# Altium schematic symbol library Schlib1.SchLib: 25 symbols (part 1 of 2)
Pins are listed as number, name and electrical type; pins without a type are passive.

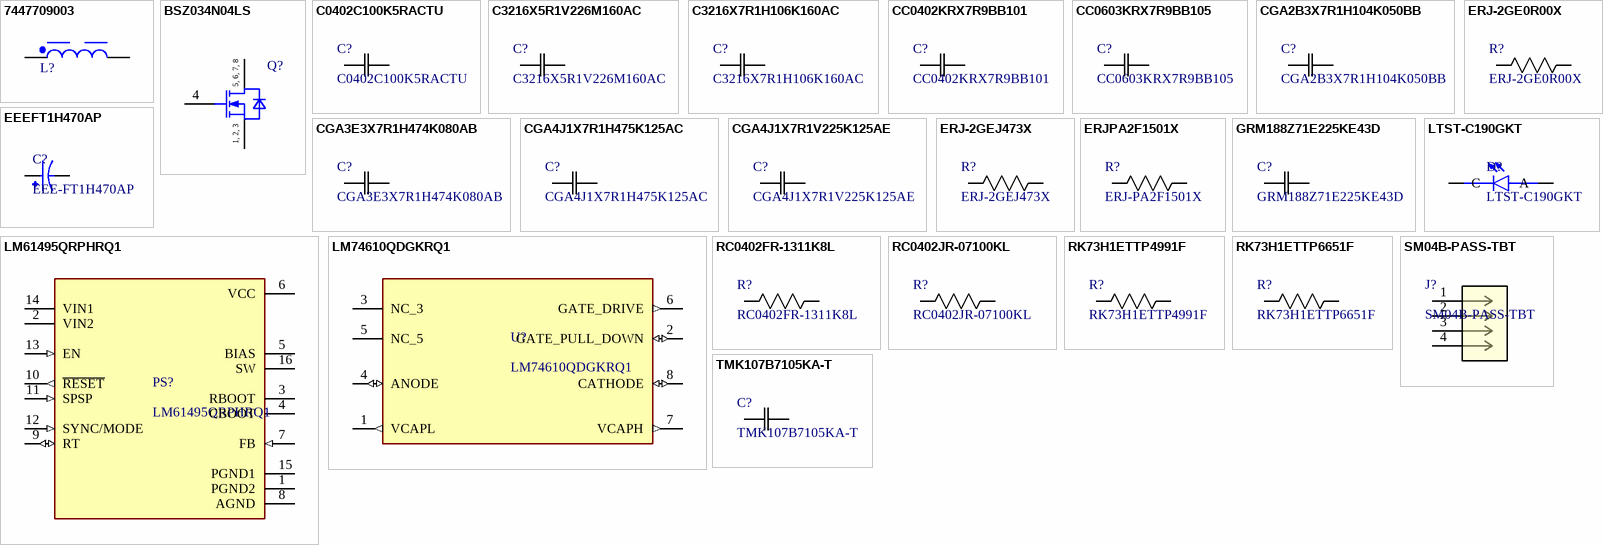
[diagram p0: symbols 7447709003 to TMK107B7105KA-T]

## 7447709003
designator L?, comment 3.5uH, 11A  (value not drawn)
WE-PD SMT Power Inductor, size 1210, 3.5uH, 11A, 9mOhm; Manufacturer Part Number: 7447709003; Manufacturer: Wurth Elektronik; Case/Size Code: 1210; DC Resistance: 6mOhm; Saturation Current: 16.5A; Self Resonant Frequency: 45MHz; Type: Standard; Category: Power Inductors; Match Code: WE-PD; ComponentLink1Description: Website Link; ComponentLink1URL: https://www.we-online.com/redexpert/article/7447709003?ad; ComponentLink2Description: Datasheet Link; ComponentLink2URL: https://www.we-online.com/redexpert/spec/7447709003?ad; Mount: Surface Mount; Operating Temperature Max: 125°C; Operating Temperature Min: -40°C; Packaging: Tape and Reel; Length: 12mm; Width: 12mm; Height: 10mm; DC Resistance Max: 9mOhm; Inductance: 3.5uH; Rated Current: 11A
footprint WE-PD_1210 (SMT Shielded Power Inductor, 2-leads, body 12x12mm)
pins: 1, 2

## BSZ034N04LS
designator Q?, comment BSZ034N04LSATMA1  (value not drawn)
N-Channel 40 V 19A (Ta), 40A (Tc) 2.1W (Ta), 52W (Tc) Surface Mount PG-TSDSON-8-FL; Manufacturer: Infineon Technologies; ManufacturerPartNumber: BSZ034N04LS; PackageReference: PG-TSDSON-8 FL
footprint INF-PG-TSDSON-8-FL (SON,0.65mm pitch;8 pin,3.3mm W X 3.3mm L X 1.10mm H body)
pins: 1 SOURCE, 2 SOURCE, 3 SOURCE, 4 GATE, 5 DRAIN, 6 DRAIN, 7 DRAIN, 8 DRAIN
text: 5, 6, 7, 8; 1, 2, 3

## C0402C100K5RACTU
designator C?
Multilayer Ceramic Capacitors MLCC - SMD/SMT 50V 10pF X7R 0402 10%; Manufacturer: KEMET; Supplier: DigiKey; Supplier Part Number: 399-C0402C100K5RACTUCT-ND; Manufacturer Part Number: C0402C100K5RACTU; RoHS: Compliant; Category: Ceramic Capacitors; Stock: 72570; Pricing: 1=0.1, 10=0.042, 50=0.0282, 100=0.0243, 500=0.01752, 1000=0.01547, 2500=0.01322, 5000=0.01199 (USD); Value: 10pF; Case/Package: 0402; China RoHS: Compliant; Dielectric: X7R; Dielectric Material: Ceramic; Height: 500µm; Length: 1mm; Lifecycle Status: Production; Material: Ceramic; Max Operating Temperature: 125°C; Min Operating Temperature: -55°C; Mounting Technology: Surface Mount; Pins: 2; Number of Terminals: 2; REACH SVHC: Yes; Schedule B: 8532240020; Tolerance: 10%; Voltage Rating: 50V; Voltage Rating (DC): 50V; Width: 500µm; ComponentLink1URL: https://datasheet.octopart.com:443/C0402C100K5RACTU-KEMET-datasheet-178445679.pdf?src-supplier=IHS; ComponentLink1Description: https://datasheet.octopart.com:443/C0402C100K5RACTU-KEMET-datasheet-178445679.pdf?src-supplier=IHS; ComponentLink2URL: https://datasheet.octopart.com:443/C0402C100K5RACTU-KEMET-datasheet-137357759.pdf?src-supplier=Farnell; ComponentLink2Description: https://datasheet.octopart.com:443/C0402C100K5RACTU-KEMET-datasheet-137357759.pdf?src-supplier=Farnell; ComponentLink3URL: https://datasheet.octopart.com:443/C0402C100K5RACTU-KEMET-datasheet-101607523.pdf?src-supplier=Farnell; ComponentLink3Description: https://datasheet.octopart.com:443/C0402C100K5RACTU-KEMET-datasheet-101607523.pdf?src-supplier=Farnell; ComponentLink4URL: https://datasheet.octopart.com:443/C0402C100K5RACTU-KEMET-datasheet-157246124.pdf?src-supplier=Electro+Sonic; ComponentLink4Description: https://datasheet.octopart.com:443/C0402C100K5RACTU-KEMET-datasheet-157246124.pdf?src-supplier=Electro+Sonic; ComponentLink5URL: https://datasheet.octopart.com:443/C0402C100K5RACTU-KEMET-datasheet-178087912.pdf?src-supplier=Newark; ComponentLink5Description: https://datasheet.octopart.com:443/C0402C100K5RACTU-KEMET-datasheet-178087912.pdf?src-supplier=Newark; ComponentLink6URL: https://datasheet.octopart.com:443/C0402C100K5RACTU-KEMET-datasheet-188904202.pdf?src-supplier=TME; ComponentLink6Description: https://datasheet.octopart.com:443/C0402C100K5RACTU-KEMET-datasheet-188904202.pdf?src-supplier=TME; ComponentLink7URL: https://datasheet.octopart.com:443/C0402C100K5RACTU-KEMET-datasheet-158241862.pdf?src-supplier=TME; ComponentLink7Description: https://datasheet.octopart.com:443/C0402C100K5RACTU-KEMET-datasheet-158241862.pdf?src-supplier=TME; ComponentLink8URL: https://datasheet.octopart.com:443/C0402C100K5RACTU-KEMET-datasheet-147336158.pdf?src-supplier=Ciiva; ComponentLink8Description: https://datasheet.octopart.com:443/C0402C100K5RACTU-KEMET-datasheet-147336158.pdf?src-supplier=Ciiva; ComponentLink9URL: https://datasheet.octopart.com/C0402C100K5RACTU-KEMET-datasheet-84169754.pdf; ComponentLink9Description: https://datasheet.octopart.com/C0402C100K5RACTU-KEMET-datasheet-84169754.pdf
footprint CAP_0402 (Capacitor)
pins: 1, 2

## C3216X5R1V226M160AC
designator C?
Multilayer Ceramic Capacitors MLCC – SMD/SMT; TDK; C3216X5R1V226M160AC; 22 µF; 1206; 35 V; 35 V; Manufacturer Lifecycle Status: PRODUCTION; Value: 22µF; Dielectric: X5R; Tolerance: 20%; Voltage: 35V; Supplier: DigiKey; Supplier Part Number: 445-8045-1-ND; Manufacturer: TDK; Manufacturer Part Number: C3216X5R1V226M160AC; RoHS: Compliant; Category: Ceramic Capacitors; Stock: 260699; Pricing: 1=0.81, 10=0.51, 50=0.3898, 100=0.3371, 500=0.29562, 1000=0.27671 (USD); Case/Package: 1206; Case Code (Imperial): 1206; Case Code (Metric): 3216; China RoHS: Compliant; Composition: Ceramic; Depth: 1.6mm; Dielectric Material: Ceramic; Height: 1.6mm; Lead Free: Lead Free; Length: 3.2mm; Lifecycle Status: Production; Material: Ceramic; Max Length: 3.4mm; Max Operating Temperature: 85°C; Max Width: 1.8mm; Min Length: 3mm; Min Operating Temperature: -55°C; Min Width: 1.4mm; Mounting Technology: Surface Mount; Number of Terminals: 2; Radiation Hardening: No; REACH SVHC: Yes; Schedule B: 8532240020, 8532240020|8532240020|8532240020|8532240020|8532240020|8532240020|8532240020|8532240020|8532240020|8532240020|8532240020|8532240020|8532240020|8532240020|8532240020|8532240020|8532240020|8532240020|8532240020|8532240020|8532240020|8532240020|8532240020|85; Termination: SMD/SMT; Thickness: 1.6mm; Voltage Rating: 35V; Voltage Rating (DC): 35V; Weight: 16.187578mg; Width: 1.6mm; ComponentLink1URL: https://datasheet.octopart.com:443/C3216X5R1V226M160AC-TDK-datasheet-175423548.pdf?src-supplier=TME; ComponentLink1Description: https://datasheet.octopart.com:443/C3216X5R1V226M160AC-TDK-datasheet-175423548.pdf?src-supplier=TME; ComponentLink2URL: https://datasheet.octopart.com:443/C3216X5R1V226M160AC-TDK-datasheet-182135025.pdf?src-supplier=TME; ComponentLink2Description: https://datasheet.octopart.com:443/C3216X5R1V226M160AC-TDK-datasheet-182135025.pdf?src-supplier=TME; ComponentLink3URL: https://datasheet.octopart.com:443/C3216X5R1V226M160AC-TDK-datasheet-159617022.pdf?src-supplier=TME; ComponentLink3Description: https://datasheet.octopart.com:443/C3216X5R1V226M160AC-TDK-datasheet-159617022.pdf?src-supplier=TME; ComponentLink4URL: https://datasheet.octopart.com/C3216X5R1V226M160AC-TDK-datasheet-41194876.pdf; ComponentLink4Description: https://datasheet.octopart.com/C3216X5R1V226M160AC-TDK-datasheet-41194876.pdf; ComponentLink5URL: https://datasheet.octopart.com:443/C3216X5R1V226M160AC-TDK-datasheet-151546523.pdf?src-supplier=ODG+(Origin+Data+Global); ComponentLink5Description: https://datasheet.octopart.com:443/C3216X5R1V226M160AC-TDK-datasheet-151546523.pdf?src-supplier=ODG+(Origin+Data+Global); ComponentLink6URL: https://datasheet.octopart.com:443/C3216X5R1V226M160AC-TDK-datasheet-154546117.pdf?src-supplier=Newark; ComponentLink6Description: https://datasheet.octopart.com:443/C3216X5R1V226M160AC-TDK-datasheet-154546117.pdf?src-supplier=Newark; ComponentLink7URL: https://datasheet.octopart.com:443/C3216X5R1V226M160AC-TDK-datasheet-82475248.pdf?src-supplier=Newark; ComponentLink7Description: https://datasheet.octopart.com:443/C3216X5R1V226M160AC-TDK-datasheet-82475248.pdf?src-supplier=Newark; ComponentLink8URL: https://datasheet.octopart.com:443/C3216X5R1V226M160AC-TDK-datasheet-13444418.pdf?src-supplier=Newark; ComponentLink8Description: https://datasheet.octopart.com:443/C3216X5R1V226M160AC-TDK-datasheet-13444418.pdf?src-supplier=Newark; ComponentLink9URL: https://datasheet.octopart.com:443/C3216X5R1V226M160AC-TDK-datasheet-23766614.pdf?src-supplier=Newark; ComponentLink9Description: https://datasheet.octopart.com:443/C3216X5R1V226M160AC-TDK-datasheet-23766614.pdf?src-supplier=Newark; ComponentLink10URL: https://datasheet.octopart.com:443/C3216X5R1V226M160AC-TDK-datasheet-41169347.pdf?src-supplier=element14+APAC; ComponentLink10Description: https://datasheet.octopart.com:443/C3216X5R1V226M160AC-TDK-datasheet-41169347.pdf?src-supplier=element14+APAC
footprint CAP_1206
pins: 1, 2

## C3216X7R1H106K160AC
designator C?
10 µF ±10% 50V Ceramic Capacitor X7R 1206 (3216 Metric); Manufacturer_Name: TDK; Copyright: Copyright (C) 2025 Ultra Librarian. All rights reserved.; Manufacturer_Part_Number: C3216X7R1H106K160AC
footprint CAP_1206
pins: 1, 2

## CC0402KRX7R9BB101
designator C?
50V 100pF X7R ±10% 0402 Multilayer Ceramic Capacitors MLCC - SMD/SMT ROHS; Manufacturer: Yageo Group; Insulation Resistance: 100GΩ; Temperature Coefficient: 30ppm/°C; Supplier: DigiKey; Supplier Part Number: 311-1419-1-ND; Manufacturer Part Number: CC0402KRX7R9BB101; RoHS: Compliant; Category: Ceramic Capacitors; Stock: 385904; Pricing: 1=0.1, 10=0.024, 50=0.0156, 100=0.0133, 500=0.00926, 1000=0.00791, 2500=0.00676, 5000=0.00609 (USD); Value: 100pF; Case/Package: 0402; Case Code (Imperial): 0402; Case Code (Metric): 1005; China RoHS: Compliant; Composition: Ceramic; Depth: 500µm; Dielectric: X7R; Dielectric Material: Ceramic; Halogen Free: Halogen Free; Height: 500µm; Lead Free: Lead Free; Length: 1mm; Lifecycle Status: Production; Material: Ceramic; Max Operating Temperature: 125°C; Min Operating Temperature: -55°C; Mounting Technology: Surface Mount; Pins: 2; Number of Terminals: 2; Radiation Hardening: No; REACH SVHC: Yes; Schedule B: 8532240020, 8532240020|8532240020, 8532240020|8532240020|8532240020, 8532240020|8532240020|8532240020|8532240020; Termination: SMD/SMT; Thickness: 558.8µm; Tolerance: 10%; Voltage Rating: 50V; Voltage Rating (AC): 50V; Voltage Rating (DC): 50V; Weight: 652.039032µg; Width: 500µm; ComponentLink1URL: https://datasheet.octopart.com:443/CC0402KRX7R9BB101-Yageo-datasheet-177165144.pdf?src-supplier=IHS; ComponentLink1Description: https://datasheet.octopart.com:443/CC0402KRX7R9BB101-Yageo-datasheet-177165144.pdf?src-supplier=IHS; ComponentLink2URL: https://datasheet.octopart.com/CC0402KRX7R9BB101-Yageo-datasheet-10883670.pdf; ComponentLink2Description: https://datasheet.octopart.com/CC0402KRX7R9BB101-Yageo-datasheet-10883670.pdf; ComponentLink3URL: https://datasheet.octopart.com/CC0402KRX7R9BB101-Yageo-datasheet-12526321.pdf; ComponentLink3Description: https://datasheet.octopart.com/CC0402KRX7R9BB101-Yageo-datasheet-12526321.pdf; ComponentLink4URL: https://datasheet.octopart.com:443/CC0402KRX7R9BB101-Yageo-datasheet-78855684.pdf?src-supplier=Upverter; ComponentLink4Description: https://datasheet.octopart.com:443/CC0402KRX7R9BB101-Yageo-datasheet-78855684.pdf?src-supplier=Upverter; ComponentLink5URL: https://datasheet.octopart.com:443/CC0402KRX7R9BB101-Yageo-datasheet-147453679.pdf?src-supplier=Newark; ComponentLink5Description: https://datasheet.octopart.com:443/CC0402KRX7R9BB101-Yageo-datasheet-147453679.pdf?src-supplier=Newark; ComponentLink6URL: https://datasheet.octopart.com:443/CC0402KRX7R9BB101-Yageo-datasheet-5301394.pdf?src-supplier=Newark; ComponentLink6Description: https://datasheet.octopart.com:443/CC0402KRX7R9BB101-Yageo-datasheet-5301394.pdf?src-supplier=Newark; ComponentLink7URL: https://datasheet.octopart.com:443/CC0402KRX7R9BB101-Yageo-datasheet-62336348.pdf?src-supplier=element14+APAC; ComponentLink7Description: https://datasheet.octopart.com:443/CC0402KRX7R9BB101-Yageo-datasheet-62336348.pdf?src-supplier=element14+APAC; ComponentLink8URL: https://datasheet.octopart.com:443/CC0402KRX7R9BB101-Yageo-datasheet-166511530.pdf?src-supplier=Future+Electronics; ComponentLink8Description: https://datasheet.octopart.com:443/CC0402KRX7R9BB101-Yageo-datasheet-166511530.pdf?src-supplier=Future+Electronics; ComponentLink9URL: https://datasheet.octopart.com:443/CC0402KRX7R9BB101-Yageo-datasheet-137700082.pdf?src-supplier=Future+Electronics; ComponentLink9Description: https://datasheet.octopart.com:443/CC0402KRX7R9BB101-Yageo-datasheet-137700082.pdf?src-supplier=Future+Electronics; ComponentLink10URL: https://datasheet.octopart.com:443/CC0402KRX7R9BB101-Yageo-datasheet-137700084.pdf?src-supplier=Future+Electronics; ComponentLink10Description: https://datasheet.octopart.com:443/CC0402KRX7R9BB101-Yageo-datasheet-137700084.pdf?src-supplier=Future+Electronics; ComponentLink11URL: https://datasheet.octopart.com:443/CC0402KRX7R9BB101-Yageo-datasheet-27626582.pdf?src-supplier=Future+Electronics; ComponentLink11Description: https://datasheet.octopart.com:443/CC0402KRX7R9BB101-Yageo-datasheet-27626582.pdf?src-supplier=Future+Electronics; ComponentLink12URL: https://datasheet.octopart.com:443/CC0402KRX7R9BB101-Yageo-datasheet-24578986.pdf?src-supplier=Future+Electronics; ComponentLink12Description: https://datasheet.octopart.com:443/CC0402KRX7R9BB101-Yageo-datasheet-24578986.pdf?src-supplier=Future+Electronics; ComponentLink13URL: https://datasheet.octopart.com:443/CC0402KRX7R9BB101-Yageo-datasheet-15895757.pdf?src-supplier=Future+Electronics; ComponentLink13Description: https://datasheet.octopart.com:443/CC0402KRX7R9BB101-Yageo-datasheet-15895757.pdf?src-supplier=Future+Electronics; ComponentLink14URL: https://datasheet.octopart.com:443/CC0402KRX7R9BB101-Yageo-datasheet-8324192.pdf?src-supplier=Future+Electronics; ComponentLink14Description: https://datasheet.octopart.com:443/CC0402KRX7R9BB101-Yageo-datasheet-8324192.pdf?src-supplier=Future+Electronics; ComponentLink15URL: https://datasheet.octopart.com:443/CC0402KRX7R9BB101-Yageo-datasheet-151948686.pdf?src-supplier=Farnell; ComponentLink15Description: https://datasheet.octopart.com:443/CC0402KRX7R9BB101-Yageo-datasheet-151948686.pdf?src-supplier=Farnell; ComponentLink16URL: http://sigma.octopart.com:80/rohs_statement/Surface-Mount-Ceramic-Multilayer-Capacitors%3B-General-Purpose-%26-High-Capacitance-Class-2%2C-X7R-Yageo-family-124.pdf?src-supplier=Compliance+Statements; ComponentLink16Description: http://sigma.octopart.com:80/rohs_statement/Surface-Mount-Ceramic-Multilayer-Capacitors%3B-General-Purpose-%26-High-Capacitance-Class-2%2C-X7R-Yageo-family-124.pdf?src-supplier=Compliance+Statements; ComponentLink17URL: http://sigma.octopart.com:80/reach_statement/Surface-Mount-Ceramic-Multilayer-Capacitors%3B-General-Purpose-%26-High-Capacitance-Class-2%2C-X7R-Yageo-family-125.pdf?src-supplier=Compliance+Statements; ComponentLink17Description: http://sigma.octopart.com:80/reach_statement/Surface-Mount-Ceramic-Multilayer-Capacitors%3B-General-Purpose-%26-High-Capacitance-Class-2%2C-X7R-Yageo-family-125.pdf?src-supplier=Compliance+Statements; ComponentLink18URL: http://sigma.octopart.com:80/rohs_statement/Yageo-company-2.pdf?src-supplier=Compliance+Statements; ComponentLink18Description: http://sigma.octopart.com:80/rohs_statement/Yageo-company-2.pdf?src-supplier=Compliance+Statements; ComponentLink19URL: http://sigma.octopart.com:80/conflict_mineral_statement/Yageo-company-3.pdf?src-supplier=Compliance+Statements; ComponentLink19Description: http://sigma.octopart.com:80/conflict_mineral_statement/Yageo-company-3.pdf?src-supplier=Compliance+Statements
footprint CAP_0402 (Capacitor)
pins: 1, 2

## CC0603KRX7R9BB105
designator C?
50V 1uF X7R ±10% 0603 Multilayer Ceramic Capacitors MLCC - SMD/SMT ROHS; Manufacturer: Yageo Group; Value: 1µF; Supplier: DigiKey; Supplier Part Number: 311-2082-1-ND; Manufacturer Part Number: CC0603KRX7R9BB105; RoHS: Compliant; Category: Ceramic Capacitors; Stock: 118343; Pricing: 1=0.47, 10=0.284, 50=0.2124, 100=0.1795, 500=0.15282, 1000=0.14128 (USD); Case/Package: 0603; Case Code (Imperial): 0603; Case Code (Metric): 1608; China RoHS: Compliant; Composition: Ceramic; Dielectric: X7R; Dielectric Material: Ceramic; Halogen Free: Halogen Free; Height: 800µm; Lead Free: Lead Free; Length: 1.6mm; Lifecycle Status: Production; Material: Ceramic; Max Operating Temperature: 125°C; Min Operating Temperature: -55°C; Mounting Technology: Surface Mount; Number of Terminals: 2; Packaging: Tape & Reel (TR); REACH SVHC: Yes; Schedule B: 8532240020, 8532240020|8532240020|8532240020|8532240020|8532240020; Termination: SMD/SMT; Thickness: 889µm; Tolerance: 10%; Voltage Rating: 50V; Voltage Rating (DC): 50V; Weight: 2.012816mg; Width: 800µm; ComponentLink1URL: https://datasheet.octopart.com:443/CC0603KRX7R9BB105-Yageo-datasheet-177165144.pdf?src-supplier=IHS; ComponentLink1Description: https://datasheet.octopart.com:443/CC0603KRX7R9BB105-Yageo-datasheet-177165144.pdf?src-supplier=IHS; ComponentLink2URL: https://datasheet.octopart.com:443/CC0603KRX7R9BB105-Yageo-datasheet-82288757.pdf?src-supplier=Upverter; ComponentLink2Description: https://datasheet.octopart.com:443/CC0603KRX7R9BB105-Yageo-datasheet-82288757.pdf?src-supplier=Upverter; ComponentLink3URL: https://datasheet.octopart.com:443/CC0603KRX7R9BB105-Yageo-datasheet-149070022.pdf?src-supplier=Upverter; ComponentLink3Description: https://datasheet.octopart.com:443/CC0603KRX7R9BB105-Yageo-datasheet-149070022.pdf?src-supplier=Upverter; ComponentLink4URL: https://sigma.octopart.com:443/147830939/technical_drawing/Yageo-CC0603KRX7R9BB105.pdf?src-supplier=Upverter; ComponentLink4Description: https://sigma.octopart.com:443/147830939/technical_drawing/Yageo-CC0603KRX7R9BB105.pdf?src-supplier=Upverter; ComponentLink5URL: https://datasheet.octopart.com:443/CC0603KRX7R9BB105-Yageo-datasheet-181968729.pdf?src-supplier=Newark; ComponentLink5Description: https://datasheet.octopart.com:443/CC0603KRX7R9BB105-Yageo-datasheet-181968729.pdf?src-supplier=Newark; ComponentLink6URL: https://datasheet.octopart.com:443/CC0603KRX7R9BB105-Yageo-datasheet-147453679.pdf?src-supplier=Newark; ComponentLink6Description: https://datasheet.octopart.com:443/CC0603KRX7R9BB105-Yageo-datasheet-147453679.pdf?src-supplier=Newark; ComponentLink7URL: https://datasheet.octopart.com:443/CC0603KRX7R9BB105-Yageo-datasheet-181964739.pdf?src-supplier=Farnell; ComponentLink7Description: https://datasheet.octopart.com:443/CC0603KRX7R9BB105-Yageo-datasheet-181964739.pdf?src-supplier=Farnell; ComponentLink8URL: https://datasheet.octopart.com:443/CC0603KRX7R9BB105-Yageo-datasheet-151948686.pdf?src-supplier=TME; ComponentLink8Description: https://datasheet.octopart.com:443/CC0603KRX7R9BB105-Yageo-datasheet-151948686.pdf?src-supplier=TME; ComponentLink9URL: https://datasheet.octopart.com:443/CC0603KRX7R9BB105-Yageo-datasheet-166511530.pdf?src-supplier=Future+Electronics; ComponentLink9Description: https://datasheet.octopart.com:443/CC0603KRX7R9BB105-Yageo-datasheet-166511530.pdf?src-supplier=Future+Electronics; ComponentLink10URL: https://datasheet.octopart.com:443/CC0603KRX7R9BB105-Yageo-datasheet-137700082.pdf?src-supplier=Future+Electronics; ComponentLink10Description: https://datasheet.octopart.com:443/CC0603KRX7R9BB105-Yageo-datasheet-137700082.pdf?src-supplier=Future+Electronics; ComponentLink11URL: https://datasheet.octopart.com:443/CC0603KRX7R9BB105-Yageo-Group-datasheet-165992755.pdf?src-supplier=ODG+(Origin+Data+Global); ComponentLink11Description: https://datasheet.octopart.com:443/CC0603KRX7R9BB105-Yageo-Group-datasheet-165992755.pdf?src-supplier=ODG+(Origin+Data+Global); ComponentLink12URL: https://datasheet.octopart.com/Surface-Mount-Ceramic-Multilayer-Capacitors%3B-General-Purpose-%26-High-Capacitance-Class-2%2C-X7R-Yageo-datasheet-family-114.pdf; ComponentLink12Description: https://datasheet.octopart.com/Surface-Mount-Ceramic-Multilayer-Capacitors%3B-General-Purpose-%26-High-Capacitance-Class-2%2C-X7R-Yageo-datasheet-family-114.pdf; ComponentLink13URL: https://datasheet.octopart.com/CC0603KRX7R9BB105-Yageo-datasheet-10883670.pdf; ComponentLink13Description: https://datasheet.octopart.com/CC0603KRX7R9BB105-Yageo-datasheet-10883670.pdf; ComponentLink14URL: http://sigma.octopart.com:80/rohs_statement/Surface-Mount-Ceramic-Multilayer-Capacitors%3B-General-Purpose-%26-High-Capacitance-Class-2%2C-X7R-Yageo-family-124.pdf?src-supplier=Compliance+Statements; ComponentLink14Description: http://sigma.octopart.com:80/rohs_statement/Surface-Mount-Ceramic-Multilayer-Capacitors%3B-General-Purpose-%26-High-Capacitance-Class-2%2C-X7R-Yageo-family-124.pdf?src-supplier=Compliance+Statements; ComponentLink15URL: http://sigma.octopart.com:80/reach_statement/Surface-Mount-Ceramic-Multilayer-Capacitors%3B-General-Purpose-%26-High-Capacitance-Class-2%2C-X7R-Yageo-family-125.pdf?src-supplier=Compliance+Statements; ComponentLink15Description: http://sigma.octopart.com:80/reach_statement/Surface-Mount-Ceramic-Multilayer-Capacitors%3B-General-Purpose-%26-High-Capacitance-Class-2%2C-X7R-Yageo-family-125.pdf?src-supplier=Compliance+Statements; ComponentLink16URL: http://sigma.octopart.com:80/rohs_statement/Yageo-company-2.pdf?src-supplier=Compliance+Statements; ComponentLink16Description: http://sigma.octopart.com:80/rohs_statement/Yageo-company-2.pdf?src-supplier=Compliance+Statements; ComponentLink17URL: http://sigma.octopart.com:80/conflict_mineral_statement/Yageo-company-3.pdf?src-supplier=Compliance+Statements; ComponentLink17Description: http://sigma.octopart.com:80/conflict_mineral_statement/Yageo-company-3.pdf?src-supplier=Compliance+Statements
footprint CAP_0603
pins: 1, 2

## CGA2B3X7R1H104K050BB
designator C?
CGA Series 0402 100 nF 50 V ±10 % Tolerance X7R SMT Multilayer Ceramic Capacitor; Manufacturer: TDK; Manufacturer Lifecycle Status: PRODUCTION; Value: 100nF; Tolerance: 10%; Voltage: 50V; Supplier: DigiKey; Supplier Part Number: 445-6899-1-ND; Manufacturer Part Number: CGA2B3X7R1H104K050BB; RoHS: Compliant; Category: Ceramic Capacitors; Stock: 4086193; Pricing: 1=0.13, 10=0.072, 50=0.05, 100=0.0434, 500=0.03172, 1000=0.02889, 2500=0.0253, 5000=0.02314 (USD); Case/Package: 0402; Case Code (Imperial): 0402; Case Code (Metric): 1005; China RoHS: Compliant; Composition: Ceramic; Depth: 500µm; Dielectric: X7R; Dielectric Material: Ceramic; Height: 500µm; Lead Free: Lead Free; Length: 1mm; Lifecycle Status: Production; Material: Ceramic; Max Length: 1.05mm; Max Operating Temperature: 125°C; Max Width: 550µm; Min Length: 950µm; Min Operating Temperature: -55°C; Min Width: 450µm; Mounting Technology: Surface Mount; Number of Terminals: 2; Ratings: AEC-Q200; REACH SVHC: Yes; Schedule B: 8532240020, 8532240020|8532240020|8532240020|8532240020|8532240020|8532240020|8532240020|8532240020|8532240020|8532240020|8532240020|8532240020|8532240020|8532240020|8532240020|8532240020|8532240020|8532240020|8532240020|8532240020|8532240020|8532240020|8532240020|85; Termination: SMD/SMT; Thickness: 558.8µm; Voltage Rating: 50V; Voltage Rating (DC): 50V; Weight: 652.039032µg; Width: 500µm; ComponentLink1URL: https://datasheet.octopart.com:443/CGA2B3X7R1H104K050BB-TDK-datasheet-165583812.pdf?src-supplier=IHS; ComponentLink1Description: https://datasheet.octopart.com:443/CGA2B3X7R1H104K050BB-TDK-datasheet-165583812.pdf?src-supplier=IHS; ComponentLink2URL: https://datasheet.octopart.com:443/CGA2B3X7R1H104K050BB-TDK-datasheet-138890726.pdf?src-supplier=Upverter; ComponentLink2Description: https://datasheet.octopart.com:443/CGA2B3X7R1H104K050BB-TDK-datasheet-138890726.pdf?src-supplier=Upverter; ComponentLink3URL: https://datasheet.octopart.com:443/CGA2B3X7R1H104K050BB-TDK-datasheet-151546526.pdf?src-supplier=ODG+(Origin+Data+Global); ComponentLink3Description: https://datasheet.octopart.com:443/CGA2B3X7R1H104K050BB-TDK-datasheet-151546526.pdf?src-supplier=ODG+(Origin+Data+Global); ComponentLink4URL: https://datasheet.octopart.com:443/CGA2B3X7R1H104K050BB-TDK-datasheet-159510193.pdf?src-supplier=Newark; ComponentLink4Description: https://datasheet.octopart.com:443/CGA2B3X7R1H104K050BB-TDK-datasheet-159510193.pdf?src-supplier=Newark; ComponentLink5URL: https://datasheet.octopart.com:443/CGA2B3X7R1H104K050BB-TDK-datasheet-21217900.pdf?src-supplier=Newark; ComponentLink5Description: https://datasheet.octopart.com:443/CGA2B3X7R1H104K050BB-TDK-datasheet-21217900.pdf?src-supplier=Newark; ComponentLink6URL: https://datasheet.octopart.com:443/CGA2B3X7R1H104K050BB-TDK-datasheet-43366117.pdf?src-supplier=Newark; ComponentLink6Description: https://datasheet.octopart.com:443/CGA2B3X7R1H104K050BB-TDK-datasheet-43366117.pdf?src-supplier=Newark; ComponentLink7URL: https://datasheet.octopart.com:443/CGA2B3X7R1H104K050BB-TDK-datasheet-33009218.pdf?src-supplier=Newark; ComponentLink7Description: https://datasheet.octopart.com:443/CGA2B3X7R1H104K050BB-TDK-datasheet-33009218.pdf?src-supplier=Newark; ComponentLink8URL: https://datasheet.octopart.com:443/CGA2B3X7R1H104K050BB-TDK-datasheet-13376850.pdf?src-supplier=Newark; ComponentLink8Description: https://datasheet.octopart.com:443/CGA2B3X7R1H104K050BB-TDK-datasheet-13376850.pdf?src-supplier=Newark; ComponentLink9URL: https://datasheet.octopart.com:443/CGA2B3X7R1H104K050BB-TDK-datasheet-12956201.pdf?src-supplier=Newark; ComponentLink9Description: https://datasheet.octopart.com:443/CGA2B3X7R1H104K050BB-TDK-datasheet-12956201.pdf?src-supplier=Newark; ComponentLink10URL: https://datasheet.octopart.com:443/CGA2B3X7R1H104K050BB-TDK-datasheet-164882302.pdf?src-supplier=Burklin+Elektronik; ComponentLink10Description: https://datasheet.octopart.com:443/CGA2B3X7R1H104K050BB-TDK-datasheet-164882302.pdf?src-supplier=Burklin+Elektronik; ComponentLink11URL: https://datasheet.octopart.com:443/CGA2B3X7R1H104K050BB-TDK-datasheet-13234200.pdf?src-supplier=Future+Electronics; ComponentLink11Description: https://datasheet.octopart.com:443/CGA2B3X7R1H104K050BB-TDK-datasheet-13234200.pdf?src-supplier=Future+Electronics; ComponentLink12URL: https://datasheet.octopart.com:443/CGA2B3X7R1H104K050BB-TDK-datasheet-12527010.pdf?src-supplier=Future+Electronics; ComponentLink12Description: https://datasheet.octopart.com:443/CGA2B3X7R1H104K050BB-TDK-datasheet-12527010.pdf?src-supplier=Future+Electronics; ComponentLink13URL: https://datasheet.octopart.com:443/CGA2B3X7R1H104K050BB-TDK-datasheet-140571036.pdf?src-supplier=Arrow.cn; ComponentLink13Description: https://datasheet.octopart.com:443/CGA2B3X7R1H104K050BB-TDK-datasheet-140571036.pdf?src-supplier=Arrow.cn
footprint CAP_0402 (Capacitor)
pins: 1, 2

## CGA3E3X7R1H474K080AB
designator C?
0.47 µF ±10% 50V Ceramic Capacitor X7R 0603 (1608 Metric); Manufacturer_Name: TDK; Copyright: Copyright (C) 2025 Ultra Librarian. All rights reserved.; Manufacturer_Part_Number: CGA3E3X7R1H474K080AB
footprint CAP_0603
pins: 1, 2

## CGA4J1X7R1H475K125AC
designator C?
Ceramic Capacitor, Multilayer, Ceramic, 50V, 10% +Tol, 10% -Tol, X7R, 15% TC, 4.7uF, Surface Mount, 0805; Manufacturer: TDK; Manufacturer Lifecycle Status: PRODUCTION; Value: 4.7µF; Supplier: DigiKey; Supplier Part Number: 445-181404-1-ND; Manufacturer Part Number: CGA4J1X7R1H475K125AC; RoHS: Compliant; Category: Ceramic Capacitors; Stock: 396272; Pricing: 1=0.52, 10=0.32, 50=0.2408, 100=0.2046, 500=0.17482, 1000=0.16204 (USD); Case/Package: 0805; China RoHS: Compliant; Dielectric Material: Ceramic; Height: 1.25mm; Length: 2mm; Lifecycle Status: Production; Material: Ceramic; Max Length: 2.25mm; Max Operating Temperature: 125°C; Max Width: 1.5mm; Min Length: 1.85mm; Min Operating Temperature: -55°C; Min Width: 1.1mm; Mounting Technology: Surface Mount; Number of Terminals: 2; REACH SVHC: Yes; Schedule B: 8532240020, 8532240020|8532240020|8532240020|8532240020|8532240020; Voltage Rating: 50V; Voltage Rating (DC): 50V; Width: 1.25mm; ComponentLink1URL: https://datasheet.octopart.com:443/CGA4J1X7R1H475K125AC-TDK-datasheet-165583812.pdf?src-supplier=IHS; ComponentLink1Description: https://datasheet.octopart.com:443/CGA4J1X7R1H475K125AC-TDK-datasheet-165583812.pdf?src-supplier=IHS; ComponentLink2URL: https://datasheet.octopart.com:443/CGA4J1X7R1H475K125AC-TDK-datasheet-138890726.pdf?src-supplier=Future+Electronics; ComponentLink2Description: https://datasheet.octopart.com:443/CGA4J1X7R1H475K125AC-TDK-datasheet-138890726.pdf?src-supplier=Future+Electronics; ComponentLink3URL: https://datasheet.octopart.com:443/CGA4J1X7R1H475K125AC-TDK-datasheet-151546526.pdf?src-supplier=TDK; ComponentLink3Description: https://datasheet.octopart.com:443/CGA4J1X7R1H475K125AC-TDK-datasheet-151546526.pdf?src-supplier=TDK; ComponentLink4URL: https://datasheet.octopart.com:443/CGA4J1X7R1H475K125AC-TDK-datasheet-140571036.pdf?src-supplier=Arrow.cn; ComponentLink4Description: https://datasheet.octopart.com:443/CGA4J1X7R1H475K125AC-TDK-datasheet-140571036.pdf?src-supplier=Arrow.cn
footprint CAP_0805
pins: 1, 2

## CGA4J1X7R1V225K125AE
designator C?
Cap Ceramic 2.2uF 35V X7R 10% Pad SMD 0805 Soft Termination 125C Automotive T/R; Manufacturer: TDK; Manufacturer Lifecycle Status: PRODUCTION; Value: 2.2µF; Supplier: DigiKey; Supplier Part Number: 445-8787-1-ND; Manufacturer Part Number: CGA4J1X7R1V225K125AE; RoHS: Compliant; Category: Ceramic Capacitors; Stock: 669506; Pricing: 1=0.66, 10=0.395, 50=0.301, 100=0.2616, 500=0.23234, 1000=0.21653 (USD); Case/Package: 0805; Case Code (Imperial): 0805; Case Code (Metric): 2012; China RoHS: Compliant; Depth: 1.25mm; Dielectric: X7R; Dielectric Material: Ceramic; Features: Soft Termination; Height: 1.25mm; Length: 2mm; Lifecycle Status: Production; Material: Ceramic; Max Length: 2.45mm; Max Operating Temperature: 125°C; Max Width: 1.5mm; Min Length: 1.8mm; Min Operating Temperature: -55°C; Min Width: 1.05mm; Mounting Technology: Surface Mount; Number of Terminals: 2; Ratings: AEC-Q200; REACH SVHC: Yes; Schedule B: 8532240020, 8532240020|8532240020|8532240020|8532240020|8532240020; Termination: SMD/SMT; Thickness: 1.4478mm; Tolerance: 10%; Voltage Rating: 35V; Voltage Rating (DC): 35V; Weight: 5.499807mg; Width: 1.25mm; ComponentLink1URL: https://datasheet.octopart.com:443/CGA4J1X7R1V225K125AE-TDK-datasheet-181961979.pdf?src-supplier=IHS; ComponentLink1Description: https://datasheet.octopart.com:443/CGA4J1X7R1V225K125AE-TDK-datasheet-181961979.pdf?src-supplier=IHS; ComponentLink2URL: https://datasheet.octopart.com:443/CGA4J1X7R1V225K125AE-TDK-datasheet-57863114.pdf?src-supplier=Newark; ComponentLink2Description: https://datasheet.octopart.com:443/CGA4J1X7R1V225K125AE-TDK-datasheet-57863114.pdf?src-supplier=Newark; ComponentLink3URL: https://datasheet.octopart.com:443/CGA4J1X7R1V225K125AE-TDK-datasheet-82475251.pdf?src-supplier=Newark; ComponentLink3Description: https://datasheet.octopart.com:443/CGA4J1X7R1V225K125AE-TDK-datasheet-82475251.pdf?src-supplier=Newark; ComponentLink4URL: https://datasheet.octopart.com:443/CGA4J1X7R1V225K125AE-TDK-datasheet-153441518.pdf?src-supplier=TDK; ComponentLink4Description: https://datasheet.octopart.com:443/CGA4J1X7R1V225K125AE-TDK-datasheet-153441518.pdf?src-supplier=TDK; ComponentLink5URL: https://datasheet.octopart.com:443/CGA4J1X7R1V225K125AE-TDK-datasheet-165583812.pdf?src-supplier=TME; ComponentLink5Description: https://datasheet.octopart.com:443/CGA4J1X7R1V225K125AE-TDK-datasheet-165583812.pdf?src-supplier=TME
footprint CAP_0805
pins: 1, 2

## EEEFT1H470AP
designator C?, comment EEE-FT1H470AP
47ÂµF 50V Aluminum Electrolytic Capacitors Radial, Can - SMD 680mOhm @ 100kHz 2000 Hrs @ 105Â°C; MF: Panasonic; MP: EEEFT1H470AP; SnapEDA_Link: https://www.snapeda.com/parts/EEEFT1H470AP/Panasonic/view-part/?ref=snap; Package: RADIAL-2 Panasonic; Value: *; Check_prices: https://www.snapeda.com/parts/EEEFT1H470AP/Panasonic/view-part/?ref=eda
footprint CAP_EEEFT1H470AP
pins: 1, 2

## ERJ-2GE0R00X
designator R?
Zero Ohm Resistor, Thick Film, 100 mW, 1 A, Surface Mount, 0402 [1005 Metric]; Manufacturer: Panasonic; Max Power Dissipation: 100mW; Value: 0Ω; Tolerance: 5%; Voltage Rating: 50V; Supplier: DigiKey; Supplier Part Number: P0.0JCT-ND; Manufacturer Part Number: ERJ-2GE0R00X; RoHS: Compliant; Category: Chip SMD Resistors; Stock: 8964543; Pricing: 1=0.1, 10=0.014, 25=0.0116, 50=0.010, 100=0.0087, 250=0.00732, 500=0.00644, 1000=0.0057, 5000=0.00436 (USD); Case/Package: 0402; Case Code (Imperial): 0402; China RoHS: Non-Compliant; Composition: Thick Film; Contact Plating: Tin; Depth: 500µm; Features: Automotive AEC-Q200; Height: 350µm; Lead Free: Lead Free; Length: 1mm; Lifecycle Status: Production; Max Operating Temperature: 155°C; Military Standard: Not; Min Operating Temperature: -55°C; Mounting Technology: Surface Mount; Pins: 2; Number of Terminals: 2; Number of Terminations: 2; Power Dissipation: 100mW; Power Rating: 100mW; Radiation Hardening: No; REACH SVHC: Yes; Termination: SMD/SMT; Voltage Rating (DC): 50V; Width: 500µm; ComponentLink1URL: https://sigma.octopart.com:443/138766958/technical_drawing/Panasonic-ERJ-2GE0R00X.pdf?src-supplier=Upverter; ComponentLink1Description: https://sigma.octopart.com:443/138766958/technical_drawing/Panasonic-ERJ-2GE0R00X.pdf?src-supplier=Upverter; ComponentLink2URL: https://datasheet.octopart.com:443/ERJ-2GE0R00X-Panasonic-datasheet-61114972.pdf?src-supplier=Future+Electronics; ComponentLink2Description: https://datasheet.octopart.com:443/ERJ-2GE0R00X-Panasonic-datasheet-61114972.pdf?src-supplier=Future+Electronics; ComponentLink3URL: https://datasheet.octopart.com:443/ERJ-2GE0R00X-Panasonic-datasheet-5314550.pdf?src-supplier=Future+Electronics; ComponentLink3Description: https://datasheet.octopart.com:443/ERJ-2GE0R00X-Panasonic-datasheet-5314550.pdf?src-supplier=Future+Electronics; ComponentLink4URL: https://datasheet.octopart.com:443/ERJ-2GE0R00X-Panasonic-datasheet-13266872.pdf?src-supplier=Newark; ComponentLink4Description: https://datasheet.octopart.com:443/ERJ-2GE0R00X-Panasonic-datasheet-13266872.pdf?src-supplier=Newark; ComponentLink5URL: https://datasheet.octopart.com:443/ERJ-2GE0R00X-Panasonic-datasheet-136608608.pdf?src-supplier=Farnell; ComponentLink5Description: https://datasheet.octopart.com:443/ERJ-2GE0R00X-Panasonic-datasheet-136608608.pdf?src-supplier=Farnell; ComponentLink6URL: https://datasheet.octopart.com:443/ERJ-2GE0R00X-Panasonic-datasheet-10554283.pdf?src-supplier=Farnell; ComponentLink6Description: https://datasheet.octopart.com:443/ERJ-2GE0R00X-Panasonic-datasheet-10554283.pdf?src-supplier=Farnell; ComponentLink7URL: https://datasheet.octopart.com:443/ERJ-2GE0R00X-Panasonic-datasheet-5313456.pdf?src-supplier=Farnell; ComponentLink7Description: https://datasheet.octopart.com:443/ERJ-2GE0R00X-Panasonic-datasheet-5313456.pdf?src-supplier=Farnell; ComponentLink8URL: https://datasheet.octopart.com:443/ERJ-2GE0R00X-Panasonic-datasheet-147443676.pdf?src-supplier=Master+Electronics; ComponentLink8Description: https://datasheet.octopart.com:443/ERJ-2GE0R00X-Panasonic-datasheet-147443676.pdf?src-supplier=Master+Electronics; ComponentLink9URL: https://datasheet.octopart.com:443/ERJ2GE0R00X-Panasonic-datasheet-165581512.pdf?src-supplier=TME; ComponentLink9Description: https://datasheet.octopart.com:443/ERJ2GE0R00X-Panasonic-datasheet-165581512.pdf?src-supplier=TME; ComponentLink10URL: https://datasheet.octopart.com:443/ERJ-2GE0R00X-Panasonic-datasheet-11480398.pdf?src-supplier=Arrow+Electronics; ComponentLink10Description: https://datasheet.octopart.com:443/ERJ-2GE0R00X-Panasonic-datasheet-11480398.pdf?src-supplier=Arrow+Electronics; ComponentLink11URL: https://datasheet.octopart.com:443/ERJ-2GE0R00X-Panasonic-datasheet-118655.pdf?src-supplier=DigiKey; ComponentLink11Description: https://datasheet.octopart.com:443/ERJ-2GE0R00X-Panasonic-datasheet-118655.pdf?src-supplier=DigiKey; ComponentLink12URL: https://datasheet.octopart.com:443/ERJ2GE0R00X-Panasonic-datasheet-27908757.pdf?src-supplier=Electro+Sonic; ComponentLink12Description: https://datasheet.octopart.com:443/ERJ2GE0R00X-Panasonic-datasheet-27908757.pdf?src-supplier=Electro+Sonic; ComponentLink13URL: https://datasheet.octopart.com:443/ERJ-2GE0R00X-Panasonic-datasheet-37173568.pdf?src-supplier=Electro+Sonic; ComponentLink13Description: https://datasheet.octopart.com:443/ERJ-2GE0R00X-Panasonic-datasheet-37173568.pdf?src-supplier=Electro+Sonic
footprint RES_0402
pins: 1, 2

## ERJ-2GEJ473X
designator R?
47 kOhms ±5% 0.1W, 1/10W Chip Resistor 0402 (1005 Metric) Automotive AEC-Q200 Thick Film; Manufacturer_Name: Panasonic; Copyright: Copyright (C) 2025 Ultra Librarian. All rights reserved.; Manufacturer_Part_Number: ERJ-2GEJ473X
footprint RES_0402
pins: 1, 2

## ERJPA2F1501X
designator R?, comment ERJ-PA2F1501X
Res Thick Film 0402 1.5K Ohm 1% 0.2W(1/5W) ±100ppm/C Pad SMD T/R Automotive AEC-Q200; Manufacturer: Panasonic; Manufacturer Part Number: ERJPA2F1501X; Max Power Dissipation: 200mW; Value: 1.5kΩ; Temperature Coefficient: 100ppm/°C; Voltage Rating: 50V; Supplier: DigiKey; Supplier Part Number: P17225DKR-ND; RoHS: Compliant; Category: Chip SMD Resistors; Stock: 65504; Pricing: 1=0.19, 10=0.094, 25=0.0744, 50=0.063, 100=0.0474, 250=0.0402, 500=0.038, 1000=0.03306, 5000=0.02959 (USD); Case/Package: 0402; Case Code (Imperial): 0402; Case Code (Metric): 1005; Composition: Thick Film; Features: Automotive AEC-Q200; Height: 350µm; Length: 990.6µm; Lifecycle Status: Production; Max Operating Temperature: 155°C; Min Operating Temperature: -55°C; Mounting Technology: Surface Mount; Number of Terminals: 2; Number of Terminations: 2; Power Dissipation: 200mW; Power Rating: 200mW; REACH SVHC: Yes; Schedule B: 8533210045, 8533210045|8533210045|8533210045|8533210045|8533210045; Tolerance: 1%; Voltage Rating (DC): 50V; Width: 500µm; Working Voltage: 50V; ComponentLink1URL: https://datasheet.octopart.com:443/ERJPA2F1501X-Panasonic-datasheet-182147306.pdf?src-supplier=IHS; ComponentLink1Description: https://datasheet.octopart.com:443/ERJPA2F1501X-Panasonic-datasheet-182147306.pdf?src-supplier=IHS; ComponentLink2URL: https://datasheet.octopart.com:443/ERJPA2F1501X-Panasonic-datasheet-68299097.pdf?src-supplier=Future+Electronics; ComponentLink2Description: https://datasheet.octopart.com:443/ERJPA2F1501X-Panasonic-datasheet-68299097.pdf?src-supplier=Future+Electronics; ComponentLink3URL: https://datasheet.octopart.com:443/ERJPA2F1501X-Panasonic-datasheet-136608609.pdf?src-supplier=Newark; ComponentLink3Description: https://datasheet.octopart.com:443/ERJPA2F1501X-Panasonic-datasheet-136608609.pdf?src-supplier=Newark; ComponentLink4URL: https://datasheet.octopart.com:443/ERJPA2F1501X-Panasonic-datasheet-62334979.pdf?src-supplier=Newark; ComponentLink4Description: https://datasheet.octopart.com:443/ERJPA2F1501X-Panasonic-datasheet-62334979.pdf?src-supplier=Newark
footprint RES_0402
pins: 1, 2

## GRM188Z71E225KE43D
designator C?
25V 2.2uF X7R ±10% 0603 Multilayer Ceramic Capacitors MLCC - SMD/SMT ROHS; Manufacturer: Murata; Manufacturer Lifecycle Status: IN PRODUCTION; Value: 2.2µF; Supplier: DigiKey; Supplier Part Number: 490-GRM188Z71E225KE43DDKR-ND; Manufacturer Part Number: GRM188Z71E225KE43D; RoHS: Compliant; Category: Ceramic Capacitors; Stock: 47639; Pricing: 1=0.18, 10=0.105, 50=0.0744, 100=0.065, 500=0.04942, 1000=0.04462 (USD); Case/Package: 0603; Dielectric Material: Ceramic; Height: 800µm; Length: 1.6mm; Lifecycle Status: Production; Material: Ceramic; Max Operating Temperature: 125°C; Min Operating Temperature: -55°C; Mounting Technology: Surface Mount; Number of Terminals: 2; REACH SVHC: Yes; Thickness: 800µm; Tolerance: 10%; Voltage Rating: 25V; Voltage Rating (DC): 25V; Width: 800µm; ComponentLink1URL: https://datasheet.octopart.com:443/GRM188Z71E225KE43D-Murata-datasheet-141276026.pdf?src-supplier=Geoflip; ComponentLink1Description: https://datasheet.octopart.com:443/GRM188Z71E225KE43D-Murata-datasheet-141276026.pdf?src-supplier=Geoflip; ComponentLink2URL: https://datasheet.octopart.com:443/GRM188Z71E225KE43D-Murata-datasheet-165579666.pdf?src-supplier=TME; ComponentLink2Description: https://datasheet.octopart.com:443/GRM188Z71E225KE43D-Murata-datasheet-165579666.pdf?src-supplier=TME; ComponentLink3URL: https://datasheet.octopart.com:443/GRM188Z71E225KE43D-Murata-datasheet-140705919.pdf?src-supplier=Ciiva; ComponentLink3Description: https://datasheet.octopart.com:443/GRM188Z71E225KE43D-Murata-datasheet-140705919.pdf?src-supplier=Ciiva; ComponentLink4URL: https://datasheet.octopart.com:443/GRM188Z71E225KE43D-Murata-datasheet-138743437.pdf?src-supplier=Ciiva; ComponentLink4Description: https://datasheet.octopart.com:443/GRM188Z71E225KE43D-Murata-datasheet-138743437.pdf?src-supplier=Ciiva; ComponentLink5URL: http://sigma.octopart.com:80/reach_statement/Murata-company-16.pdf?src-supplier=Compliance+Statements; ComponentLink5Description: http://sigma.octopart.com:80/reach_statement/Murata-company-16.pdf?src-supplier=Compliance+Statements
footprint CAP_0603
pins: 1, 2

## LM61495QRPHRQ1
designator PS?
10-A automotive buck converter optimized for power density and low EMI; MF: Texas Instruments; SnapEDA_Link: https://www.snapeda.com/parts/LM61495QRPHRQ1/Texas+Instruments/view-part/?ref=snap; Package: PowerVFQFN-16 Texas Instruments; Value: *; MP: LM61495QRPHRQ1; Check_prices: https://www.snapeda.com/parts/LM61495QRPHRQ1/Texas+Instruments/view-part/?ref=eda
footprint CONV_LM61495QRPHRQ1
pins: 1 PGND2 (power), 2 VIN2 (power), 3 RBOOT, 4 CBOOT, 5 BIAS, 6 VCC (power), 7 FB (in), 8 AGND (power), 9 RT (io), 10 ~{RESET} (out), 11 SPSP (in), 12 SYNC/MODE (in), 13 EN (in), 14 VIN1 (power), 15 PGND1 (power), 16 SW

## LM74610QDGKRQ1
designator U?
0.48-V to 42-V, zero IQ automotive ideal diode controller; MF: Texas Instruments; SnapEDA_Link: https://www.snapeda.com/parts/LM74610QDGKRQ1/Texas+Instruments/view-part/?ref=snap; Package: VSSOP-8 Texas Instruments; Value: *; MP: LM74610QDGKRQ1; Check_prices: https://www.snapeda.com/parts/LM74610QDGKRQ1/Texas+Instruments/view-part/?ref=eda
footprint SOP65P490X110-8N
pins: 1 VCAPL (out), 2 GATE_PULL_DOWN (io), 3 NC_3, 4 ANODE (io), 5 NC_5, 6 GATE_DRIVE (out), 7 VCAPH (out), 8 CATHODE (io)

## LTST-C190GKT
designator D?
Green 569nm LED Indication - Discrete 2.1V 0603 (1608 Metric); MF: {'manufacturer': u'Lite-On Inc.'}; Package: None; Price: None; Value: *; MP: LTST-C190GKT; Availability: Unavailable
footprint LEDM1608X80
pins: A, C

## RC0402FR-1311K8L
designator R?
Res Thick Film 0402 11.8K Ohm 1% 0.063W(1/16W) 100ppm/C Pad SMD T/R; Manufacturer: Yageo Group; Power Dissipation: 62.5mW; Value: 11.8kΩ; Temperature Coefficient: 100ppm/°C; Working Voltage: 50V; Supplier: DigiKey; Supplier Part Number: 13-RC0402FR-1311K8LCT-ND; Manufacturer Part Number: RC0402FR-1311K8L; RoHS: Compliant; Category: Chip SMD Resistors; Stock: 194853; Pricing: 1=0.1, 10=0.02, 25=0.014, 50=0.0112, 100=0.009, 250=0.00688, 500=0.00566, 1000=0.00474, 5000=0.00328 (USD); Case/Package: 0402; China RoHS: Non-Compliant; Composition: Thick Film; Contact Plating: Tin; Height: 350µm; Lifecycle Status: Production; Max Operating Temperature: 155°C; Min Operating Temperature: -55°C; Mounting Technology: Surface Mount; Number of Terminals: 2; Packaging: Tape & Reel; REACH SVHC: Yes; Tolerance: 1%; Width: 500µm; ComponentLink1URL: https://datasheet.octopart.com:443/RC0402FR-1311K8L-Yageo-datasheet-175887523.pdf?src-supplier=IHS; ComponentLink1Description: https://datasheet.octopart.com:443/RC0402FR-1311K8L-Yageo-datasheet-175887523.pdf?src-supplier=IHS; ComponentLink2URL: https://datasheet.octopart.com:443/RC0402FR-1311K8L-Yageo-datasheet-164759695.pdf?src-supplier=Future+Electronics; ComponentLink2Description: https://datasheet.octopart.com:443/RC0402FR-1311K8L-Yageo-datasheet-164759695.pdf?src-supplier=Future+Electronics; ComponentLink3URL: https://datasheet.octopart.com:443/RC0402FR-1311K8L-Yageo-datasheet-141265859.pdf?src-supplier=Future+Electronics; ComponentLink3Description: https://datasheet.octopart.com:443/RC0402FR-1311K8L-Yageo-datasheet-141265859.pdf?src-supplier=Future+Electronics; ComponentLink4URL: https://datasheet.octopart.com/RC0402FR-1311K8L-Yageo-datasheet-73766026.pdf; ComponentLink4Description: https://datasheet.octopart.com/RC0402FR-1311K8L-Yageo-datasheet-73766026.pdf; ComponentLink5URL: https://datasheet.octopart.com:443/RC0402FR-1311K8L-Yageo-datasheet-10408619.pdf?src-supplier=_legacy+Avnet; ComponentLink5Description: https://datasheet.octopart.com:443/RC0402FR-1311K8L-Yageo-datasheet-10408619.pdf?src-supplier=_legacy+Avnet; ComponentLink6URL: http://sigma.octopart.com:80/rohs_statement/Yageo-company-2.pdf?src-supplier=Compliance+Statements; ComponentLink6Description: http://sigma.octopart.com:80/rohs_statement/Yageo-company-2.pdf?src-supplier=Compliance+Statements; ComponentLink7URL: http://sigma.octopart.com:80/conflict_mineral_statement/Yageo-company-3.pdf?src-supplier=Compliance+Statements; ComponentLink7Description: http://sigma.octopart.com:80/conflict_mineral_statement/Yageo-company-3.pdf?src-supplier=Compliance+Statements
footprint RES_0402
pins: 1, 2